# EAGLE library part EMMC (library GTA04b7)
eMMC in 169 BGA or 153 BGA (Hynix)
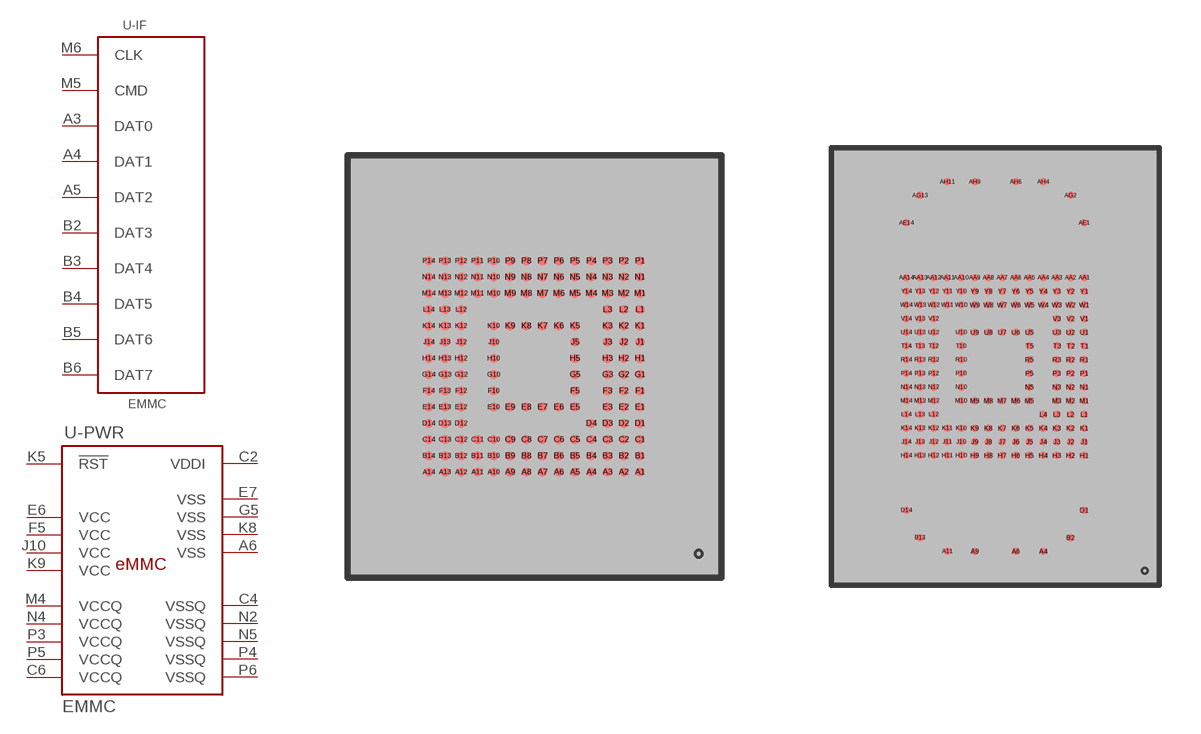
[diagram p15: symbol with the pads of EMMC-BGA-N153-0.5; footprints EMMC-BGA-N153-0.5, EMMC-BGA-N169-0.5]

Designator prefix -; gates -IF=IF-MMC8 -PWR=EMMC-MAIN

## EMMC-153  [EMMC-BGA-N153-0.5]
A3  -IF:DAT0
A4  -IF:DAT1
A5  -IF:DAT2
A6  -PWR:VSS  pwr
B2  -IF:DAT3
B3  -IF:DAT4
B4  -IF:DAT5
B5  -IF:DAT6
B6  -IF:DAT7
C2  -PWR:VDDI  pwr
C4  -PWR:VSSQ  pwr
C6  -PWR:VCCQ  pwr
E6  -PWR:VCC  pwr
E7  -PWR:VSS  pwr
F5  -PWR:VCC  pwr
G5  -PWR:VSS  pwr
J10  -PWR:VCC  pwr
K5  -PWR:!RST  in
K8  -PWR:VSS  pwr
K9  -PWR:VCC  pwr
M4  -PWR:VCCQ  pwr
M5  -IF:CMD  out
M6  -IF:CLK  out
N2  -PWR:VSSQ  pwr
N4  -PWR:VCCQ  pwr
N5  -PWR:VSSQ  pwr
P3  -PWR:VCCQ  pwr
P4  -PWR:VSSQ  pwr
P5  -PWR:VCCQ  pwr
P6  -PWR:VSSQ  pwr

## EMMC-169  [EMMC-BGA-N169-0.5]
AA3  -PWR:VCCQ  pwr
AA4  -PWR:VSSQ  pwr
AA5  -PWR:VCCQ  pwr
AA6  -PWR:VSSQ  pwr
H3  -IF:DAT0
H4  -IF:DAT1
H5  -IF:DAT2
J2  -IF:DAT3
J3  -IF:DAT4
J4  -IF:DAT5
J5  -IF:DAT6
J6  -IF:DAT7
K2  -PWR:VDDI  pwr
K4  -PWR:VSSQ  pwr
K6  -PWR:VCCQ  pwr
M6  -PWR:VCC  pwr
M7  -PWR:VSS  pwr
N5  -PWR:VCC  pwr
P5  -PWR:VSS  pwr
R10  -PWR:VSS  pwr
T10  -PWR:VCC  pwr
U5  -PWR:!RST  in
U8  -PWR:VSS  pwr
U9  -PWR:VCC  pwr
W4  -PWR:VCCQ  pwr
W5  -IF:CMD  out
W6  -IF:CLK  out
Y2  -PWR:VSSQ  pwr
Y4  -PWR:VCCQ  pwr
Y5  -PWR:VSSQ  pwr

## Footprint EMMC-BGA-N153-0.5 (pad centres in mm)
153 ball BGA for eMMC 11.5x13mm package
smd 0.275 x 0.275: A1 3.25,-3.25; A2 2.75,-3.25; A3 2.25,-3.25; A4 1.75,-3.25; A5 1.25,-3.25; A6 0.75,-3.25; A7 0.25,-3.25; A8 -0.25,-3.25; A9 -0.75,-3.25; A10 -1.25,-3.25; A11 -1.75,-3.25; A12 -2.25,-3.25; A13 -2.75,-3.25; A14 -3.25,-3.25; B1 3.25,-2.75; B2 2.75,-2.75; B3 2.25,-2.75; B4 1.75,-2.75; B5 1.25,-2.75; B6 0.75,-2.75; B7 0.25,-2.75; B8 -0.25,-2.75; B9 -0.75,-2.75; B10 -1.25,-2.75; B11 -1.75,-2.75; B12 -2.25,-2.75; B13 -2.75,-2.75; B14 -3.25,-2.75; C1 3.25,-2.25; C2 2.75,-2.25; C3 2.25,-2.25; C4 1.75,-2.25; C5 1.25,-2.25; C6 0.75,-2.25; C7 0.25,-2.25; C8 -0.25,-2.25; C9 -0.75,-2.25; C10 -1.25,-2.25; C11 -1.75,-2.25; C12 -2.25,-2.25; C13 -2.75,-2.25; C14 -3.25,-2.25; D1 3.25,-1.75; D2 2.75,-1.75; D3 2.25,-1.75; D4 1.75,-1.75; D12 -2.25,-1.75; D13 -2.75,-1.75; D14 -3.25,-1.75; E1 3.25,-1.25; E2 2.75,-1.25; E3 2.25,-1.25; E5 1.25,-1.25; E6 0.75,-1.25; E7 0.25,-1.25; E8 -0.25,-1.25; E9 -0.75,-1.25; E10 -1.25,-1.25; E12 -2.25,-1.25; E13 -2.75,-1.25; E14 -3.25,-1.25; F1 3.25,-0.75; F2 2.75,-0.75; F3 2.25,-0.75; F5 1.25,-0.75; F10 -1.25,-0.75; F12 -2.25,-0.75; F13 -2.75,-0.75; F14 -3.25,-0.75; G1 3.25,-0.25; G2 2.75,-0.25; G3 2.25,-0.25; G5 1.25,-0.25; G10 -1.25,-0.25; G12 -2.25,-0.25; G13 -2.75,-0.25; G14 -3.25,-0.25; H1 3.25,0.25; H2 2.75,0.25; H3 2.25,0.25; H5 1.25,0.25; H10 -1.25,0.25; H12 -2.25,0.25; H13 -2.75,0.25; H14 -3.25,0.25; J1 3.25,0.75; J2 2.75,0.75; J3 2.25,0.75; J5 1.25,0.75; J10 -1.25,0.75; J12 -2.25,0.75; J13 -2.75,0.75; J14 -3.25,0.75; K1 3.25,1.25; K2 2.75,1.25; K3 2.25,1.25; K5 1.25,1.25; K6 0.75,1.25; K7 0.25,1.25; K8 -0.25,1.25; K9 -0.75,1.25; K10 -1.25,1.25; K12 -2.25,1.25; K13 -2.75,1.25; K14 -3.25,1.25; L1 3.25,1.75; L2 2.75,1.75; L3 2.25,1.75; L12 -2.25,1.75; L13 -2.75,1.75; L14 -3.25,1.75; M1 3.25,2.25; M2 2.75,2.25; M3 2.25,2.25; M4 1.75,2.25; M5 1.25,2.25; M6 0.75,2.25; M7 0.25,2.25; M8 -0.25,2.25; M9 -0.75,2.25; M10 -1.25,2.25; M11 -1.75,2.25; M12 -2.25,2.25; M13 -2.75,2.25; M14 -3.25,2.25; N1 3.25,2.75; N2 2.75,2.75; N3 2.25,2.75; N4 1.75,2.75; N5 1.25,2.75; N6 0.75,2.75; N7 0.25,2.75; N8 -0.25,2.75; N9 -0.75,2.75; N10 -1.25,2.75; N11 -1.75,2.75; N12 -2.25,2.75; N13 -2.75,2.75; N14 -3.25,2.75; P1 3.25,3.25; P2 2.75,3.25; P3 2.25,3.25; P4 1.75,3.25; P5 1.25,3.25; P6 0.75,3.25; P7 0.25,3.25; P8 -0.25,3.25; P9 -0.75,3.25; P10 -1.25,3.25; P11 -1.75,3.25; P12 -2.25,3.25; P13 -2.75,3.25; P14 -3.25,3.25

## Footprint EMMC-BGA-N169-0.5 (pad centres in mm)
169 ball BGA for eMMC 12x16mm package
smd 0.275 x 0.275: A4 1.75,-6.75; A6 0.75,-6.75; A9 -0.75,-6.75; A11 -1.75,-6.75; AA1 3.25,3.25; AA2 2.75,3.25; AA3 2.25,3.25; AA4 1.75,3.25; AA5 1.25,3.25; AA6 0.75,3.25; AA7 0.25,3.25; AA8 -0.25,3.25; AA9 -0.75,3.25; AA10 -1.25,3.25; AA11 -1.75,3.25; AA12 -2.25,3.25; AA13 -2.75,3.25; AA14 -3.25,3.25; AE1 3.25,5.25; AE14 -3.25,5.25; AG2 2.75,6.25; AG13 -2.75,6.25; AH4 1.75,6.75; AH6 0.75,6.75; AH9 -0.75,6.75; AH11 -1.75,6.75; B2 2.75,-6.25; B13 -2.75,-6.25; D1 3.25,-5.25; D14 -3.25,-5.25; H1 3.25,-3.25; H2 2.75,-3.25; H3 2.25,-3.25; H4 1.75,-3.25; H5 1.25,-3.25; H6 0.75,-3.25; H7 0.25,-3.25; H8 -0.25,-3.25; H9 -0.75,-3.25; H10 -1.25,-3.25; H11 -1.75,-3.25; H12 -2.25,-3.25; H13 -2.75,-3.25; H14 -3.25,-3.25; J1 3.25,-2.75; J2 2.75,-2.75; J3 2.25,-2.75; J4 1.75,-2.75; J5 1.25,-2.75; J6 0.75,-2.75; J7 0.25,-2.75; J8 -0.25,-2.75; J9 -0.75,-2.75; J10 -1.25,-2.75; J11 -1.75,-2.75; J12 -2.25,-2.75; J13 -2.75,-2.75; J14 -3.25,-2.75; K1 3.25,-2.25; K2 2.75,-2.25; K3 2.25,-2.25; K4 1.75,-2.25; K5 1.25,-2.25; K6 0.75,-2.25; K7 0.25,-2.25; K8 -0.25,-2.25; K9 -0.75,-2.25; K10 -1.25,-2.25; K11 -1.75,-2.25; K12 -2.25,-2.25; K13 -2.75,-2.25; K14 -3.25,-2.25; L1 3.25,-1.75; L2 2.75,-1.75; L3 2.25,-1.75; L4 1.75,-1.75; L12 -2.25,-1.75; L13 -2.75,-1.75; L14 -3.25,-1.75; M1 3.25,-1.25; M2 2.75,-1.25; M3 2.25,-1.25; M5 1.25,-1.25; M6 0.75,-1.25; M7 0.25,-1.25; M8 -0.25,-1.25; M9 -0.75,-1.25; M10 -1.25,-1.25; M12 -2.25,-1.25; M13 -2.75,-1.25; M14 -3.25,-1.25; N1 3.25,-0.75; N2 2.75,-0.75; N3 2.25,-0.75; N5 1.25,-0.75; N10 -1.25,-0.75; N12 -2.25,-0.75; N13 -2.75,-0.75; N14 -3.25,-0.75; P1 3.25,-0.25; P2 2.75,-0.25; P3 2.25,-0.25; P5 1.25,-0.25; P10 -1.25,-0.25; P12 -2.25,-0.25; P13 -2.75,-0.25; P14 -3.25,-0.25; R1 3.25,0.25; R2 2.75,0.25; R3 2.25,0.25; R5 1.25,0.25; R10 -1.25,0.25; R12 -2.25,0.25; R13 -2.75,0.25; R14 -3.25,0.25; T1 3.25,0.75; T2 2.75,0.75; T3 2.25,0.75; T5 1.25,0.75; T10 -1.25,0.75; T12 -2.25,0.75; T13 -2.75,0.75; T14 -3.25,0.75; U1 3.25,1.25; U2 2.75,1.25; U3 2.25,1.25; U5 1.25,1.25; U6 0.75,1.25; U7 0.25,1.25; U8 -0.25,1.25; U9 -0.75,1.25; U10 -1.25,1.25; U12 -2.25,1.25; U13 -2.75,1.25; U14 -3.25,1.25; V1 3.25,1.75; V2 2.75,1.75; V3 2.25,1.75; V12 -2.25,1.75; V13 -2.75,1.75; V14 -3.25,1.75; W1 3.25,2.25; W2 2.75,2.25; W3 2.25,2.25; W4 1.75,2.25; W5 1.25,2.25; W6 0.75,2.25; W7 0.25,2.25; W8 -0.25,2.25; W9 -0.75,2.25; W10 -1.25,2.25; W11 -1.75,2.25; W12 -2.25,2.25; W13 -2.75,2.25; W14 -3.25,2.25; Y1 3.25,2.75; Y2 2.75,2.75; Y3 2.25,2.75; Y4 1.75,2.75; Y5 1.25,2.75; Y6 0.75,2.75; Y7 0.25,2.75; Y8 -0.25,2.75; Y9 -0.75,2.75; Y10 -1.25,2.75; Y11 -1.75,2.75; Y12 -2.25,2.75; Y13 -2.75,2.75; Y14 -3.25,2.75